# EAGLE library part M20-9980345 (library SamacSys_Parts)
M20 Header, Pin, Dil, Vertical, 3+3 W HARWIN M20 Series, 2.54mm Pitch 6 Way 2 Row Straight Pin Header, Through Hole, Solder Termination Source: Datasheet <https://componentsearchengine.com/Datasheets/2/M20-9980345.pdf>
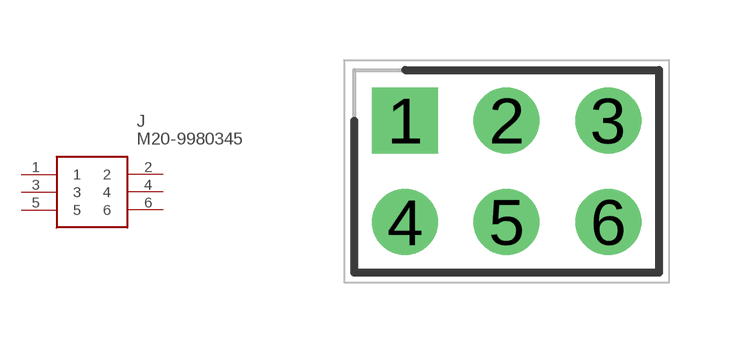
[diagram p6: symbol with the pads of HDRV6W64P254_2X3_762X508X864P; footprint HDRV6W64P254_2X3_762X508X864P]

Designator prefix J

## M20-9980345 (DESCRIPTION: M20 Header, Pin, Dil, Vertical, 3+3 W HARWIN M20 Series, 2.54mm Pitch 6 Way 2 Row Straight Pin Header, Through Hole, Solder Termination; HEIGHT: 8.64mm; MANUFACTURER_NAME: Harwin; MANUFACTURER_PART_NUMBER: M20-9980345; MOUSER_PART_NUMBER: 855-M20-9980345; MOUSER_PRICE-STOCK: https://www.mouser.co.uk/ProductDetail/Harwin/M20-9980345?qs=%252Bk6%2F5FB6qrmWKPTw4u3RIA%3D%3D)  [HDRV6W64P254_2X3_762X508X864P]
1  1
2  2
3  3
4  4
5  5
6  6

## Footprint HDRV6W64P254_2X3_762X508X864P (pad centres in mm)
M20-9980345
drill 1.1 pad 1.65 square: 1 0,0
drill 1.1 pad 1.65: 2 2.54,0; 3 5.08,0; 4 0,-2.54; 5 2.54,-2.54; 6 5.08,-2.54